# EAGLE library part LT3956EUHEPBF (library lt3956)
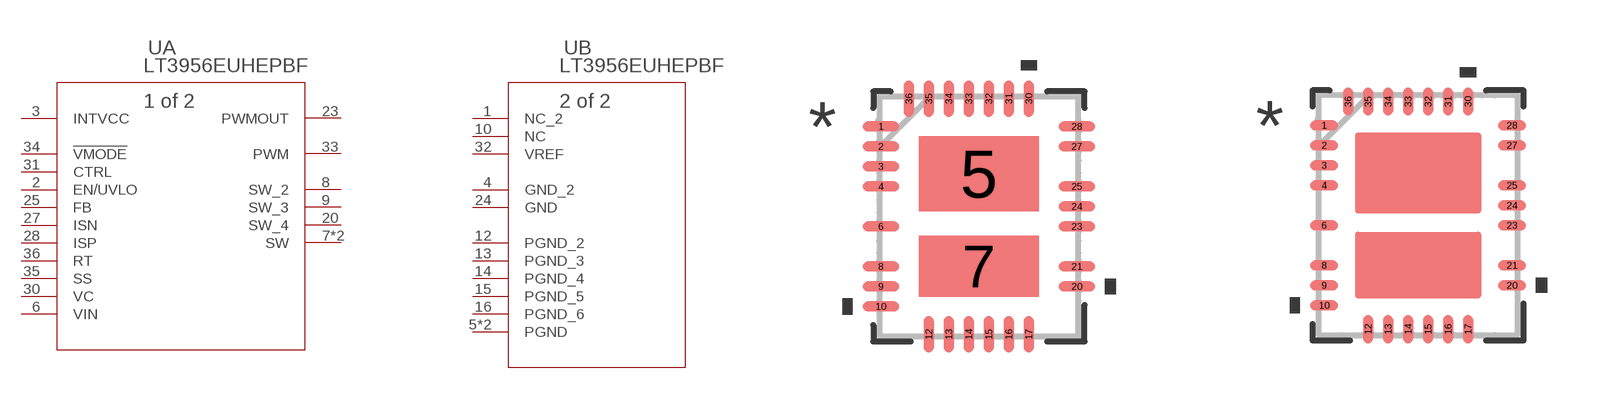
[diagram p0: symbol with the pads of UHE_36_ADI-M; footprints UHE_36_ADI-M, UHE_36_ADI-L]

Designator prefix U; gates A=LT3956EUHEPBF B=LT3956EUHEPBF_A

## LT3956EUHEPBFUHE_36_ADI-M (COPYRIGHT: Copyright (C) 2021 Ultra Librarian. All rights reserved.; DIGI-KEY_PART_NUMBER_1: LT3956EUHE#PBF-ND; MANUFACTURER_PART_NUMBER: LT3956EUHE#PBF; MFR_NAME: Analog Devices Inc)  [UHE_36_ADI-M]
1  B:NC_2  pas
2  A:EN/UVLO  pas
3  A:INTVCC  pas
4  B:GND_2  pas
5  B:PGND  pas
6  A:VIN  pas
7  A:SW  pas
8  A:SW_2  pas
9  A:SW_3  pas
10  B:NC  pas
12  B:PGND_2  pas
13  B:PGND_3  pas
14  B:PGND_4  pas
15  B:PGND_5  pas
16  B:PGND_6  pas
17  B:PGND  pas
20  A:SW_4  pas
21  A:SW  pas
23  A:PWMOUT  pas
24  B:GND  pas
25  A:FB  pas
27  A:ISN  pas
28  A:ISP  pas
30  A:VC  pas
31  A:CTRL  pas
32  B:VREF  pas
33  A:PWM  pas
34  A:!VMODE  pas
35  A:SS  pas
36  A:RT  pas

## LT3956EUHEPBFUHE_36_ADI-L (COPYRIGHT: Copyright (C) 2021 Ultra Librarian. All rights reserved.; DIGI-KEY_PART_NUMBER_1: LT3956EUHE#PBF-ND; MANUFACTURER_PART_NUMBER: LT3956EUHE#PBF; MFR_NAME: Analog Devices Inc)  [UHE_36_ADI-L]
1  B:NC_2  pas
2  A:EN/UVLO  pas
3  A:INTVCC  pas
4  B:GND_2  pas
6  A:VIN  pas
8  A:SW_2  pas
9  A:SW_3  pas
10  B:NC  pas
12  B:PGND_2  pas
13  B:PGND_3  pas
14  B:PGND_4  pas
15  B:PGND_5  pas
16  B:PGND_6  pas
17  B:PGND  pas
20  A:SW_4  pas
21  A:SW  pas
23  A:PWMOUT  pas
24  B:GND  pas
25  A:FB  pas
27  A:ISN  pas
28  A:ISP  pas
30  A:VC  pas
31  A:CTRL  pas
32  B:VREF  pas
33  A:PWM  pas
34  A:!VMODE  pas
35  A:SS  pas
36  A:RT  pas

## Footprint UHE_36_ADI-M (pad centres in mm)
smd 0.914 x 0.254: 1 -2.451,2.25; 2 -2.451,1.75; 3 -2.451,1.25; 4 -2.451,0.75; 6 -2.451,-0.25; 8 -2.451,-1.25; 9 -2.451,-1.75; 10 -2.451,-2.25; 20 2.451,-1.75; 21 2.451,-1.25; 23 2.451,-0.25; 24 2.451,0.25; 25 2.451,0.75; 27 2.451,1.75; 28 2.451,2.25
smd 3 x 1.88: 5 0,1.067
smd 3 x 1.53: 7 0,-1.245
smd 0.254 x 0.914: 12 -1.25,-2.946; 13 -0.75,-2.946; 14 -0.25,-2.946; 15 0.25,-2.946; 16 0.75,-2.946; 17 1.25,-2.946; 30 1.25,2.946; 31 0.75,2.946; 32 0.25,2.946; 33 -0.25,2.946; 34 -0.75,2.946; 35 -1.25,2.946; 36 -1.75,2.946

## Footprint UHE_36_ADI-L (pad centres in mm)
smd 0.711 x 0.254: 1 -2.349,2.25; 2 -2.349,1.75; 3 -2.349,1.25; 4 -2.349,0.75; 6 -2.349,-0.25; 8 -2.349,-1.25; 9 -2.349,-1.75; 10 -2.349,-2.25; 20 2.349,-1.75; 21 2.349,-1.25; 23 2.349,-0.25; 24 2.349,0.25; 25 2.349,0.75; 27 2.349,1.75; 28 2.349,2.25
smd 0.254 x 0.711: 12 -1.25,-2.845; 13 -0.75,-2.845; 14 -0.25,-2.845; 15 0.25,-2.845; 16 0.75,-2.845; 17 1.25,-2.845; 30 1.25,2.845; 31 0.75,2.845; 32 0.25,2.845; 33 -0.25,2.845; 34 -0.75,2.845; 35 -1.25,2.845; 36 -1.75,2.845